# EAGLE library part AVRTINY-ATTINY20-UU (library Atmel_AVR8)
8-bit Microcontroller with Bytes In-System Programmable Flash
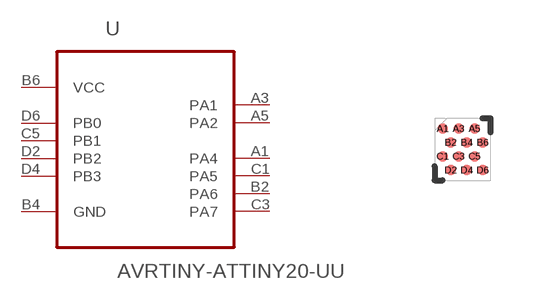
[diagram p3: symbol with the pads of 12U-1; footprint 12U-1]

Designator prefix U

## AVRTINY-ATTINY20-UU  [12U-1]
A1  PA4
A3  PA1
A5  PA2
B2  PA6
B4  GND  pas
B6  VCC  pwr
C1  PA5
C3  PA7
C5  PB1
D2  PB2
D4  PB3
D6  PB0

## Footprint 12U-1 (pad centres in mm)
12-ball 1.540 x 1.388mm Body, 0.433 mm thick, 0.40 mm Pitch (3x4 Staggered Array), WLCSP Atmel PCB Mounting Guidelines for Surface Mount Packages, Page 9 <http://www.atmel.com/images/atmel-8826-seeprom-pcb-mounting-guidelines-surface-mount-packages-applicationnote.pdf#page=9>
smd 0.269 x 0.269: A1 -0.5,0.519; A3 -0.1,0.519; A5 0.3,0.519; B2 -0.3,0.173; B4 0.1,0.173; B6 0.5,0.173; C1 -0.5,-0.173; C3 -0.1,-0.173; C5 0.3,-0.173; D2 -0.3,-0.519; D4 0.1,-0.519; D6 0.5,-0.519